# Altium schematic symbol library BU30TD3WG-TR.SchLib: 1 symbol
Pins are listed as number, name and electrical type; pins without a type are passive.

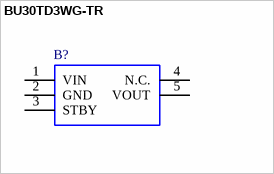
[diagram p0: symbol BU30TD3WG-TR]

## BU30TD3WG-TR
designator B?
ROHM - BU30TD3WG-TR - LDO, FIXED, 3V, 0.2A, SSOP-5; Manufacturer_Name: ROHM Semiconductor; Geometry.Height: 1.25mm; Manufacturer_Part_Number: BU30TD3WG-TR; Mouser Part Number: 755-BU30TD3WG-TR; Mouser Price/Stock: https://www.mouser.com/Search/Refine.aspx?Keyword=755-BU30TD3WG-TR; Arrow Part Number: *; Arrow Price/Stock: *; Mouser Testing Part Number: *; Mouser Testing Price/Stock: *; Datasheet Link: https://componentsearchengine.com/Datasheets/2/BU30TD3WG-TR.pdf
footprint SOT95P280X125-5N
pins: 1 VIN (power), 2 GND, 3 STBY, 4 N.C., 5 VOUT